# Altium integrated library ST Analog Comparator.IntLib: 82 symbols
Pins are listed as number, name and electrical type; pins without a type are passive.

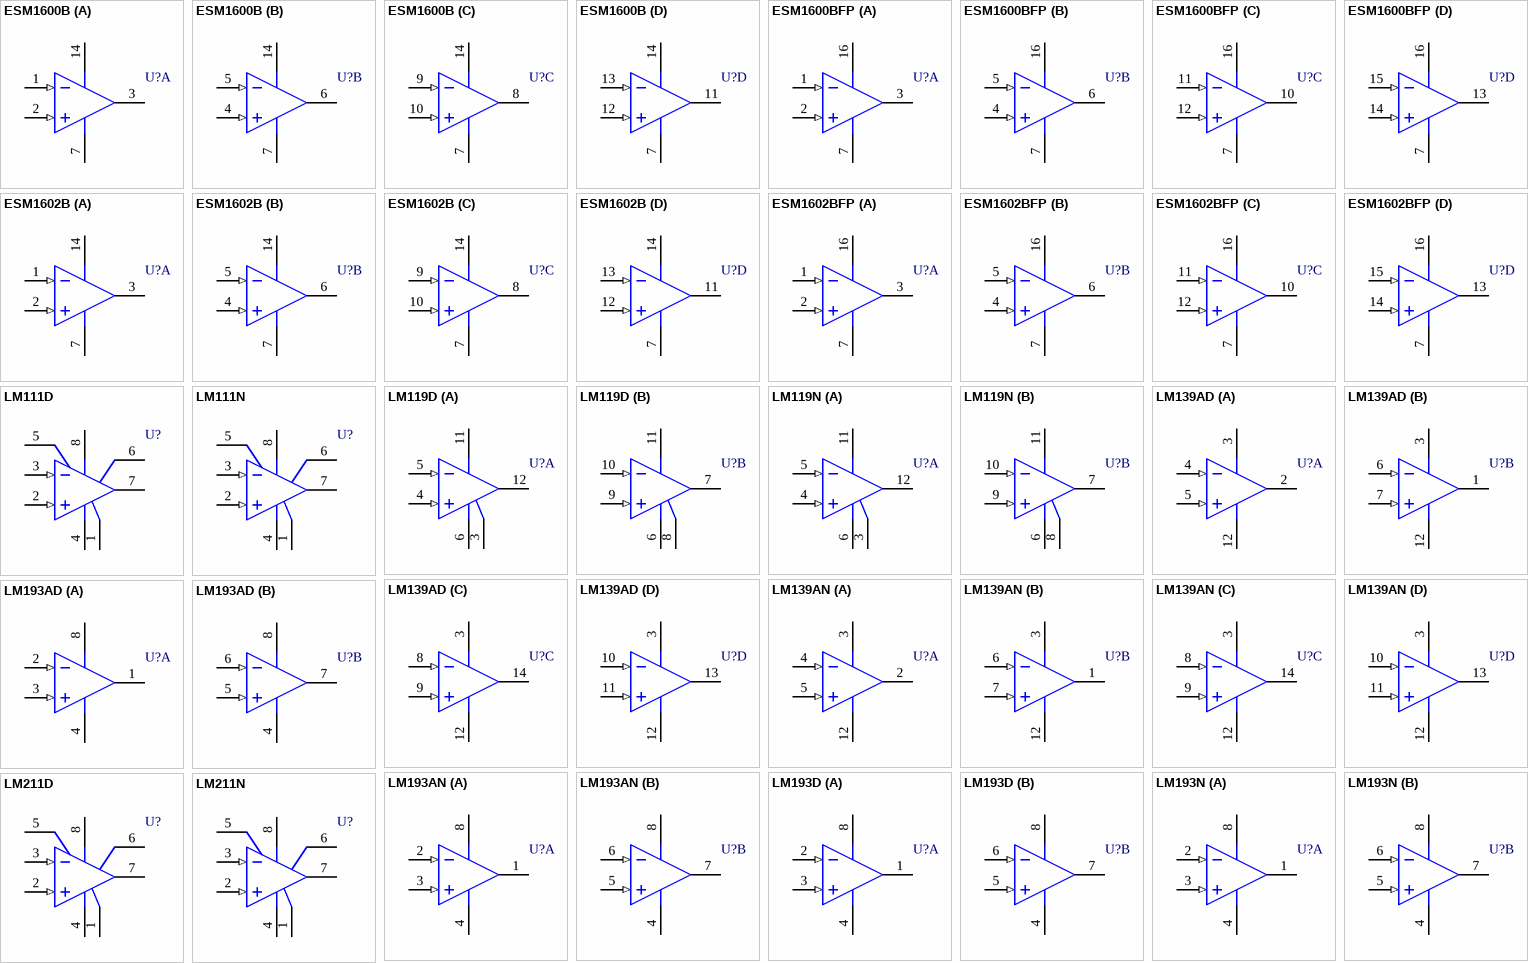
[diagram p0: symbols ESM1600B to LM211N]

## ESM1600B
designator U?
Quad Comparator Interface Circuit; Published: 24-Aug-2001; LatestRevisionDate: 17-Jul-2002; LatestRevisionNote: Re-released for DXP Platform.; DatasheetDocument: Jan-1997; PackageDocument: Jan-1997; PackageReference: DIP14; Publisher: Altium Limited
footprint DIP14 (DIP; 14 Leads; Row Spacing 7.62 mm; Pitch 2.54 mm)
pins on every part: 7 GND (power), 14 VCC (power)
part A pins: 1 IN- (in), 2 IN+ (in), 3 OUT (oc)
part B pins: 4 IN+ (in), 5 IN- (in), 6 OUT (oc)
part C pins: 8 OUT (oc), 9 IN- (in), 10 IN+ (in)
part D pins: 11 OUT (oc), 12 IN+ (in), 13 IN- (in)

## ESM1600BFP
designator U?
Quad Comparator Interface Circuit; Note: Pins 8 and 9 are not connected (NC) and not drawn.; Published: 24-Aug-2001; LatestRevisionDate: 17-Jul-2002; LatestRevisionNote: Re-released for DXP Platform.; DatasheetDocument: Jan-1997; PackageDocument: May-1998; PackageReference: SO16; Publisher: Altium Limited
footprint SO16 (Small Outline; 16 Leads; Body Width 3.9 mm; Pitch 1.27 mm)
pins on every part: 7 GND (power), 16 VCC (power)
part A pins: 1 IN- (in), 2 IN+ (in), 3 OUT (oc)
part B pins: 4 IN+ (in), 5 IN- (in), 6 OUT (oc)
part C pins: 10 OUT (oc), 11 IN- (in), 12 IN+ (in)
part D pins: 13 OUT (oc), 14 IN+ (in), 15 IN- (in)

## ESM1602B
designator U?
Quad Comparator Interface Circuit; Published: 24-Aug-2001; LatestRevisionDate: 17-Jul-2002; LatestRevisionNote: Re-released for DXP Platform.; DatasheetDocument: Jan-1996; PackageDocument: Jan-1997; PackageReference: DIP14; Publisher: Altium Limited
footprint DIP14 (DIP; 14 Leads; Row Spacing 7.62 mm; Pitch 2.54 mm)
pins on every part: 7 GND (power), 14 VCC (power)
part A pins: 1 IN- (in), 2 IN+ (in), 3 OUT (oc)
part B pins: 4 IN+ (in), 5 IN- (in), 6 OUT (oc)
part C pins: 8 OUT (oc), 9 IN- (in), 10 IN+ (in)
part D pins: 11 OUT (oc), 12 IN+ (in), 13 IN- (in)

## ESM1602BFP
designator U?
Quad Comparator Interface Circuit; Note: Pins 8 and 9 are not connected (NC) and not drawn.; Published: 24-Aug-2001; LatestRevisionDate: 17-Jul-2002; LatestRevisionNote: Re-released for DXP Platform.; DatasheetDocument: Jan-1996; PackageDocument: May-1998; PackageReference: SO16; Publisher: Altium Limited
footprint SO16 (Small Outline; 16 Leads; Body Width 3.9 mm; Pitch 1.27 mm)
pins on every part: 7 GND (power), 16 VCC (power)
part A pins: 1 IN- (in), 2 IN+ (in), 3 OUT (oc)
part B pins: 4 IN+ (in), 5 IN- (in), 6 OUT (oc)
part C pins: 10 OUT (oc), 11 IN- (in), 12 IN+ (in)
part D pins: 13 OUT (oc), 14 IN+ (in), 15 IN- (in)

## LM111D
designator U?
Voltage Comparator; Published: 24-Aug-2001; LatestRevisionDate: 17-Jul-2002; LatestRevisionNote: Re-released for DXP Platform.; DatasheetDocument: Oct-1997; PackageDocument: Jul-1998; PackageReference: SO8; Publisher: Altium Limited; Code_JEDEC: MS-012-AA; Code_IPC: SO8
footprint SO8 (Small Outline; 8 Leads; Body Width 3.9 mm; Pitch 1.27 mm)
pins: 1 GND (power), 2 IN+ (in), 3 IN- (in), 4 V- (CASE) (power), 5 BAL, 6 BAL/STB, 7 OUT (oc), 8 V+ (power)

## LM111N
designator U?
Voltage Comparator; Published: 24-Aug-2001; LatestRevisionDate: 17-Jul-2002; LatestRevisionNote: Re-released for DXP Platform.; DatasheetDocument: Oct-1997; PackageReference: DIP8; Publisher: Altium Limited; Code_JEDEC: MO-001-AN
footprint DIP8 (DIP; 8 Leads; Row Spacing 7.62 mm; Pitch 2.54 mm)
pins: 1 GND (power), 2 IN+ (in), 3 IN- (in), 4 V- (CASE) (power), 5 BAL, 6 BAL/STB, 7 OUT (oc), 8 V+ (power)

## LM119D
designator U?
High-Speed Dual Comparator; Note: Pins 1, 2, 13 and 14 are not connected (NC) and not drawn.; Published: 24-Aug-2001; LatestRevisionDate: 17-Jul-2002; LatestRevisionNote: Re-released for DXP Platform.; DatasheetDocument: Oct-1997; PackageDocument: Sep-1998; PackageReference: SO14; Publisher: Altium Limited
footprint SO14 (Small Outline; 14 Leads; Body Width 3.9 mm; Pitch 1.27 mm)
pins on every part: 6 V- (power), 11 V+ (power)
part A pins: 3 GND (power), 4 IN+ (in), 5 IN- (in), 12 OUT (oc)
part B pins: 7 OUT (oc), 8 GND (power), 9 IN+ (in), 10 IN- (in)

## LM119N
designator U?
High-Speed Dual Comparator; Note: Pins 1, 2, 13 and 14 are not connected (NC) and not drawn.; Published: 24-Aug-2001; LatestRevisionDate: 17-Jul-2002; LatestRevisionNote: Re-released for DXP Platform.; DatasheetDocument: Oct-1997; PackageDocument: Jan-1997; PackageReference: DIP14; Publisher: Altium Limited
footprint DIP14 (DIP; 14 Leads; Row Spacing 7.62 mm; Pitch 2.54 mm)
pins on every part: 6 V- (power), 11 V+ (power)
part A pins: 3 GND (power), 4 IN+ (in), 5 IN- (in), 12 OUT (oc)
part B pins: 7 OUT (oc), 8 GND (power), 9 IN+ (in), 10 IN- (in)

## LM139AD
designator U?
Low-Power Quad Voltage Comparator; Published: 24-Aug-2001; LatestRevisionDate: 17-Jul-2002; LatestRevisionNote: Re-released for DXP Platform.; DatasheetDocument: Jun-1998; PackageDocument: Sep-1998; PackageReference: SO14; Publisher: Altium Limited
footprint SO14 (Small Outline; 14 Leads; Body Width 3.9 mm; Pitch 1.27 mm)
pins on every part: 3 V+ (power), 12 V- (power)
part A pins: 2 OUT (oc), 4 IN- (in), 5 IN+ (in)
part B pins: 1 OUT (oc), 6 IN- (in), 7 IN+ (in)
part C pins: 8 IN- (in), 9 IN+ (in), 14 OUT (oc)
part D pins: 10 IN- (in), 11 IN+ (in), 13 OUT (oc)

## LM139AN
designator U?
Low-Power Quad Voltage Comparator; Published: 24-Aug-2001; LatestRevisionDate: 17-Jul-2002; LatestRevisionNote: Re-released for DXP Platform.; DatasheetDocument: Jun-1998; PackageDocument: Jan-1997; PackageReference: DIP14; Publisher: Altium Limited
footprint DIP14 (DIP; 14 Leads; Row Spacing 7.62 mm; Pitch 2.54 mm)
pins on every part: 3 V+ (power), 12 V- (power)
part A pins: 2 OUT (oc), 4 IN- (in), 5 IN+ (in)
part B pins: 1 OUT (oc), 6 IN- (in), 7 IN+ (in)
part C pins: 8 IN- (in), 9 IN+ (in), 14 OUT (oc)
part D pins: 10 IN- (in), 11 IN+ (in), 13 OUT (oc)

## LM193AD
designator U?
Low-Power Dual Voltage Comparator; Published: 24-Aug-2001; LatestRevisionDate: 17-Jul-2002; LatestRevisionNote: Re-released for DXP Platform.; DatasheetDocument: Nov-1992; PackageDocument: Jul-1998; PackageReference: SO8; Publisher: Altium Limited; Code_JEDEC: MS-012-AA; Code_IPC: SO8
footprint SO8 (Small Outline; 8 Leads; Body Width 3.9 mm; Pitch 1.27 mm)
pins on every part: 4 V- (power), 8 V+ (power)
part A pins: 1 OUT (oc), 2 IN- (in), 3 IN+ (in)
part B pins: 5 IN+ (in), 6 IN- (in), 7 OUT (oc)

## LM193AN
designator U?
Low-Power Dual Voltage Comparator; Published: 24-Aug-2001; LatestRevisionDate: 17-Jul-2002; LatestRevisionNote: Re-released for DXP Platform.; DatasheetDocument: Nov-1992; PackageReference: DIP8; Publisher: Altium Limited; Code_JEDEC: MO-001-AN
footprint DIP8 (DIP; 8 Leads; Row Spacing 7.62 mm; Pitch 2.54 mm)
pins on every part: 4 V- (power), 8 V+ (power)
part A pins: 1 OUT (oc), 2 IN- (in), 3 IN+ (in)
part B pins: 5 IN+ (in), 6 IN- (in), 7 OUT (oc)

## LM193D
designator U?
Low-Power Dual Voltage Comparator; Published: 24-Aug-2001; LatestRevisionDate: 17-Jul-2002; LatestRevisionNote: Re-released for DXP Platform.; DatasheetDocument: Jun-1998; PackageDocument: Jul-1998; PackageReference: SO8; Publisher: Altium Limited; Code_JEDEC: MS-012-AA; Code_IPC: SO8
footprint SO8 (Small Outline; 8 Leads; Body Width 3.9 mm; Pitch 1.27 mm)
pins on every part: 4 V- (power), 8 V+ (power)
part A pins: 1 OUT (oc), 2 IN- (in), 3 IN+ (in)
part B pins: 5 IN+ (in), 6 IN- (in), 7 OUT (oc)

## LM193N
designator U?
Low-Power Dual Voltage Comparator; Published: 24-Aug-2001; LatestRevisionDate: 17-Jul-2002; LatestRevisionNote: Re-released for DXP Platform.; DatasheetDocument: Jun-1998; PackageReference: DIP8; Publisher: Altium Limited; Code_JEDEC: MO-001-AN
footprint DIP8 (DIP; 8 Leads; Row Spacing 7.62 mm; Pitch 2.54 mm)
pins on every part: 4 V- (power), 8 V+ (power)
part A pins: 1 OUT (oc), 2 IN- (in), 3 IN+ (in)
part B pins: 5 IN+ (in), 6 IN- (in), 7 OUT (oc)

## LM211D
designator U?
Voltage Comparator; Published: 24-Aug-2001; LatestRevisionDate: 17-Jul-2002; LatestRevisionNote: Re-released for DXP Platform.; DatasheetDocument: Oct-1997; PackageDocument: Jul-1998; PackageReference: SO8; Publisher: Altium Limited; Code_JEDEC: MS-012-AA; Code_IPC: SO8
footprint SO8 (Small Outline; 8 Leads; Body Width 3.9 mm; Pitch 1.27 mm)
pins: 1 GND (power), 2 IN+ (in), 3 IN- (in), 4 V- (CASE) (power), 5 BAL, 6 BAL/STB, 7 OUT (oc), 8 V+ (power)

## LM211N
designator U?
Voltage Comparator; Published: 24-Aug-2001; LatestRevisionDate: 17-Jul-2002; LatestRevisionNote: Re-released for DXP Platform.; DatasheetDocument: Oct-1997; PackageReference: DIP8; Publisher: Altium Limited; Code_JEDEC: MO-001-AN
footprint DIP8 (DIP; 8 Leads; Row Spacing 7.62 mm; Pitch 2.54 mm)
pins: 1 GND (power), 2 IN+ (in), 3 IN- (in), 4 V- (CASE) (power), 5 BAL, 6 BAL/STB, 7 OUT (oc), 8 V+ (power)

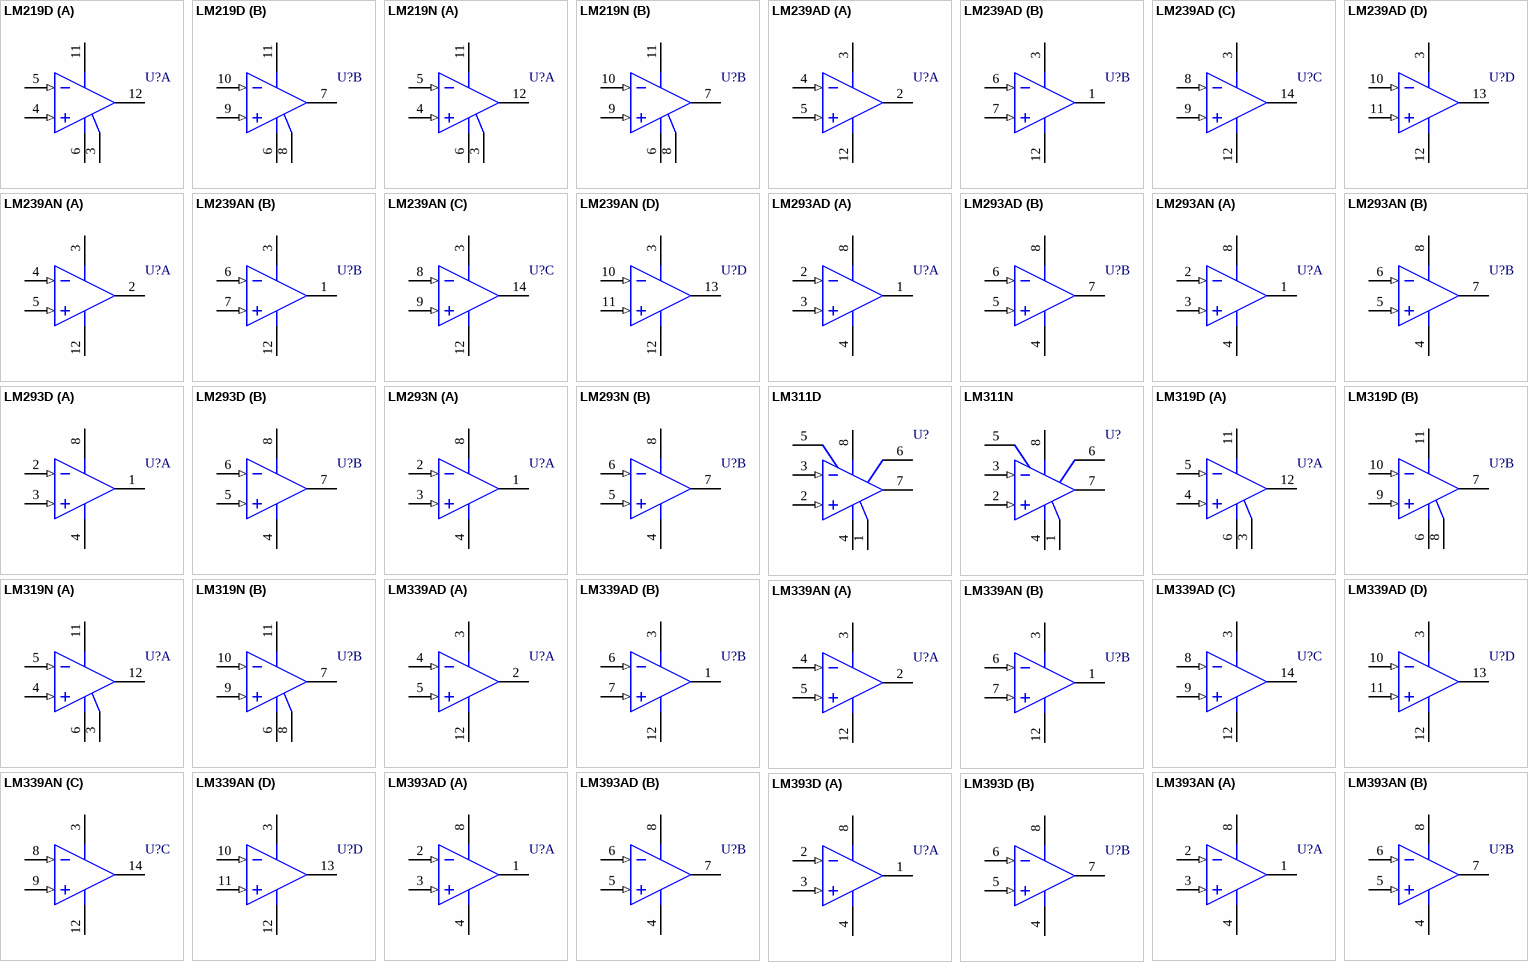
[diagram p1: symbols LM219D to LM393D]

## LM219D
designator U?
High-Speed Dual Comparator; Note: Pins 1, 2, 13 and 14 are not connected (NC) and not drawn.; Published: 24-Aug-2001; LatestRevisionDate: 17-Jul-2002; LatestRevisionNote: Re-released for DXP Platform.; DatasheetDocument: Oct-1997; PackageDocument: Sep-1998; PackageReference: SO14; Publisher: Altium Limited
footprint SO14 (Small Outline; 14 Leads; Body Width 3.9 mm; Pitch 1.27 mm)
pins on every part: 6 V- (power), 11 V+ (power)
part A pins: 3 GND (power), 4 IN+ (in), 5 IN- (in), 12 OUT (oc)
part B pins: 7 OUT (oc), 8 GND (power), 9 IN+ (in), 10 IN- (in)

## LM219N
designator U?
High-Speed Dual Comparator; Note: Pins 1, 2, 13 and 14 are not connected (NC) and not drawn.; Published: 24-Aug-2001; LatestRevisionDate: 17-Jul-2002; LatestRevisionNote: Re-released for DXP Platform.; DatasheetDocument: Oct-1997; PackageDocument: Jan-1997; PackageReference: DIP14; Publisher: Altium Limited
footprint DIP14 (DIP; 14 Leads; Row Spacing 7.62 mm; Pitch 2.54 mm)
pins on every part: 6 V- (power), 11 V+ (power)
part A pins: 3 GND (power), 4 IN+ (in), 5 IN- (in), 12 OUT (oc)
part B pins: 7 OUT (oc), 8 GND (power), 9 IN+ (in), 10 IN- (in)

## LM239AD
designator U?
Low-Power Quad Voltage Comparator; Published: 24-Aug-2001; LatestRevisionDate: 17-Jul-2002; LatestRevisionNote: Re-released for DXP Platform.; DatasheetDocument: Jun-1998; PackageDocument: Sep-1998; PackageReference: SO14; Publisher: Altium Limited
footprint SO14 (Small Outline; 14 Leads; Body Width 3.9 mm; Pitch 1.27 mm)
pins on every part: 3 V+ (power), 12 V- (power)
part A pins: 2 OUT (oc), 4 IN- (in), 5 IN+ (in)
part B pins: 1 OUT (oc), 6 IN- (in), 7 IN+ (in)
part C pins: 8 IN- (in), 9 IN+ (in), 14 OUT (oc)
part D pins: 10 IN- (in), 11 IN+ (in), 13 OUT (oc)

## LM239AN
designator U?
Low-Power Quad Voltage Comparator; Published: 24-Aug-2001; LatestRevisionDate: 17-Jul-2002; LatestRevisionNote: Re-released for DXP Platform.; DatasheetDocument: Jun-1998; PackageDocument: Jan-1997; PackageReference: DIP14; Publisher: Altium Limited
footprint DIP14 (DIP; 14 Leads; Row Spacing 7.62 mm; Pitch 2.54 mm)
pins on every part: 3 V+ (power), 12 V- (power)
part A pins: 2 OUT (oc), 4 IN- (in), 5 IN+ (in)
part B pins: 1 OUT (oc), 6 IN- (in), 7 IN+ (in)
part C pins: 8 IN- (in), 9 IN+ (in), 14 OUT (oc)
part D pins: 10 IN- (in), 11 IN+ (in), 13 OUT (oc)

## LM293AD
designator U?
Low-Power Dual Voltage Comparator; Published: 24-Aug-2001; LatestRevisionDate: 17-Jul-2002; LatestRevisionNote: Re-released for DXP Platform.; DatasheetDocument: Nov-1992; PackageDocument: Jul-1998; PackageReference: SO8; Publisher: Altium Limited; Code_JEDEC: MS-012-AA; Code_IPC: SO8
footprint SO8 (Small Outline; 8 Leads; Body Width 3.9 mm; Pitch 1.27 mm)
pins on every part: 4 V- (power), 8 V+ (power)
part A pins: 1 OUT (oc), 2 IN- (in), 3 IN+ (in)
part B pins: 5 IN+ (in), 6 IN- (in), 7 OUT (oc)

## LM293AN
designator U?
Low-Power Dual Voltage Comparator; Published: 24-Aug-2001; LatestRevisionDate: 17-Jul-2002; LatestRevisionNote: Re-released for DXP Platform.; DatasheetDocument: Nov-1992; PackageReference: DIP8; Publisher: Altium Limited; Code_JEDEC: MO-001-AN
footprint DIP8 (DIP; 8 Leads; Row Spacing 7.62 mm; Pitch 2.54 mm)
pins on every part: 4 V- (power), 8 V+ (power)
part A pins: 1 OUT (oc), 2 IN- (in), 3 IN+ (in)
part B pins: 5 IN+ (in), 6 IN- (in), 7 OUT (oc)

## LM293D
designator U?
Low-Power Dual Voltage Comparator; Published: 24-Aug-2001; LatestRevisionDate: 17-Jul-2002; LatestRevisionNote: Re-released for DXP Platform.; DatasheetDocument: Jun-1998; PackageDocument: Jul-1998; PackageReference: SO8; Publisher: Altium Limited; Code_JEDEC: MS-012-AA; Code_IPC: SO8
footprint SO8 (Small Outline; 8 Leads; Body Width 3.9 mm; Pitch 1.27 mm)
pins on every part: 4 V- (power), 8 V+ (power)
part A pins: 1 OUT (oc), 2 IN- (in), 3 IN+ (in)
part B pins: 5 IN+ (in), 6 IN- (in), 7 OUT (oc)

## LM293N
designator U?
Low-Power Dual Voltage Comparator; Published: 24-Aug-2001; LatestRevisionDate: 17-Jul-2002; LatestRevisionNote: Re-released for DXP Platform.; DatasheetDocument: Jun-1998; PackageReference: DIP8; Publisher: Altium Limited; Code_JEDEC: MO-001-AN
footprint DIP8 (DIP; 8 Leads; Row Spacing 7.62 mm; Pitch 2.54 mm)
pins on every part: 4 V- (power), 8 V+ (power)
part A pins: 1 OUT (oc), 2 IN- (in), 3 IN+ (in)
part B pins: 5 IN+ (in), 6 IN- (in), 7 OUT (oc)

## LM311D
designator U?
Voltage Comparator; Published: 24-Aug-2001; LatestRevisionDate: 17-Jul-2002; LatestRevisionNote: Re-released for DXP Platform.; DatasheetDocument: Oct-1997; PackageDocument: Jul-1998; PackageReference: SO8; Publisher: Altium Limited; Code_JEDEC: MS-012-AA; Code_IPC: SO8
footprint SO8 (Small Outline; 8 Leads; Body Width 3.9 mm; Pitch 1.27 mm)
pins: 1 GND (power), 2 IN+ (in), 3 IN- (in), 4 V- (CASE) (power), 5 BAL, 6 BAL/STB, 7 OUT (oc), 8 V+ (power)

## LM311N
designator U?
Voltage Comparator; Published: 24-Aug-2001; LatestRevisionDate: 17-Jul-2002; LatestRevisionNote: Re-released for DXP Platform.; DatasheetDocument: Oct-1997; PackageReference: DIP8; Publisher: Altium Limited; Code_JEDEC: MO-001-AN
footprint DIP8 (DIP; 8 Leads; Row Spacing 7.62 mm; Pitch 2.54 mm)
pins: 1 GND (power), 2 IN+ (in), 3 IN- (in), 4 V- (CASE) (power), 5 BAL, 6 BAL/STB, 7 OUT (oc), 8 V+ (power)

## LM319D
designator U?
High-Speed Dual Comparator; Note: Pins 1, 2, 13 and 14 are not connected (NC) and not drawn.; Published: 24-Aug-2001; LatestRevisionDate: 17-Jul-2002; LatestRevisionNote: Re-released for DXP Platform.; DatasheetDocument: Oct-1997; PackageDocument: Sep-1998; PackageReference: SO14; Publisher: Altium Limited
footprint SO14 (Small Outline; 14 Leads; Body Width 3.9 mm; Pitch 1.27 mm)
pins on every part: 6 V- (power), 11 V+ (power)
part A pins: 3 GND (power), 4 IN+ (in), 5 IN- (in), 12 OUT (oc)
part B pins: 7 OUT (oc), 8 GND (power), 9 IN+ (in), 10 IN- (in)

## LM319N
designator U?
High-Speed Dual Comparator; Note: Pins 1, 2, 13 and 14 are not connected (NC) and not drawn.; Published: 24-Aug-2001; LatestRevisionDate: 17-Jul-2002; LatestRevisionNote: Re-released for DXP Platform.; DatasheetDocument: Oct-1997; PackageDocument: Jan-1997; PackageReference: DIP14; Publisher: Altium Limited
footprint DIP14 (DIP; 14 Leads; Row Spacing 7.62 mm; Pitch 2.54 mm)
pins on every part: 6 V- (power), 11 V+ (power)
part A pins: 3 GND (power), 4 IN+ (in), 5 IN- (in), 12 OUT (oc)
part B pins: 7 OUT (oc), 8 GND (power), 9 IN+ (in), 10 IN- (in)

## LM339AD
designator U?
Low-Power Quad Voltage Comparator; Published: 24-Aug-2001; LatestRevisionDate: 17-Jul-2002; LatestRevisionNote: Re-released for DXP Platform.; DatasheetDocument: Jun-1998; PackageDocument: Sep-1998; PackageReference: SO14; Publisher: Altium Limited
footprint SO14 (Small Outline; 14 Leads; Body Width 3.9 mm; Pitch 1.27 mm)
pins on every part: 3 V+ (power), 12 V- (power)
part A pins: 2 OUT (oc), 4 IN- (in), 5 IN+ (in)
part B pins: 1 OUT (oc), 6 IN- (in), 7 IN+ (in)
part C pins: 8 IN- (in), 9 IN+ (in), 14 OUT (oc)
part D pins: 10 IN- (in), 11 IN+ (in), 13 OUT (oc)

## LM339AN
designator U?
Low-Power Quad Voltage Comparator; Published: 24-Aug-2001; LatestRevisionDate: 17-Jul-2002; LatestRevisionNote: Re-released for DXP Platform.; DatasheetDocument: Jun-1998; PackageDocument: Jan-1997; PackageReference: DIP14; Publisher: Altium Limited
footprint DIP14 (DIP; 14 Leads; Row Spacing 7.62 mm; Pitch 2.54 mm)
pins on every part: 3 V+ (power), 12 V- (power)
part A pins: 2 OUT (oc), 4 IN- (in), 5 IN+ (in)
part B pins: 1 OUT (oc), 6 IN- (in), 7 IN+ (in)
part C pins: 8 IN- (in), 9 IN+ (in), 14 OUT (oc)
part D pins: 10 IN- (in), 11 IN+ (in), 13 OUT (oc)

## LM393AD
designator U?
Low-Power Dual Voltage Comparator; Published: 24-Aug-2001; LatestRevisionDate: 17-Jul-2002; LatestRevisionNote: Re-released for DXP Platform.; DatasheetDocument: Nov-1992; PackageDocument: Jul-1998; PackageReference: SO8; Publisher: Altium Limited; Code_JEDEC: MS-012-AA; Code_IPC: SO8
footprint SO8 (Small Outline; 8 Leads; Body Width 3.9 mm; Pitch 1.27 mm)
pins on every part: 4 V- (power), 8 V+ (power)
part A pins: 1 OUT (oc), 2 IN- (in), 3 IN+ (in)
part B pins: 5 IN+ (in), 6 IN- (in), 7 OUT (oc)

## LM393AN
designator U?
Low-Power Dual Voltage Comparator; Published: 24-Aug-2001; LatestRevisionDate: 17-Jul-2002; LatestRevisionNote: Re-released for DXP Platform.; DatasheetDocument: Nov-1992; PackageReference: DIP8; Publisher: Altium Limited; Code_JEDEC: MO-001-AN
footprint DIP8 (DIP; 8 Leads; Row Spacing 7.62 mm; Pitch 2.54 mm)
pins on every part: 4 V- (power), 8 V+ (power)
part A pins: 1 OUT (oc), 2 IN- (in), 3 IN+ (in)
part B pins: 5 IN+ (in), 6 IN- (in), 7 OUT (oc)

## LM393D
designator U?
Low-Power Dual Voltage Comparator; Published: 24-Aug-2001; LatestRevisionDate: 17-Jul-2002; LatestRevisionNote: Re-released for DXP Platform.; DatasheetDocument: Jun-1998; PackageDocument: Jul-1998; PackageReference: SO8; Publisher: Altium Limited; Code_JEDEC: MS-012-AA; Code_IPC: SO8
footprint SO8 (Small Outline; 8 Leads; Body Width 3.9 mm; Pitch 1.27 mm)
pins on every part: 4 V- (power), 8 V+ (power)
part A pins: 1 OUT (oc), 2 IN- (in), 3 IN+ (in)
part B pins: 5 IN+ (in), 6 IN- (in), 7 OUT (oc)

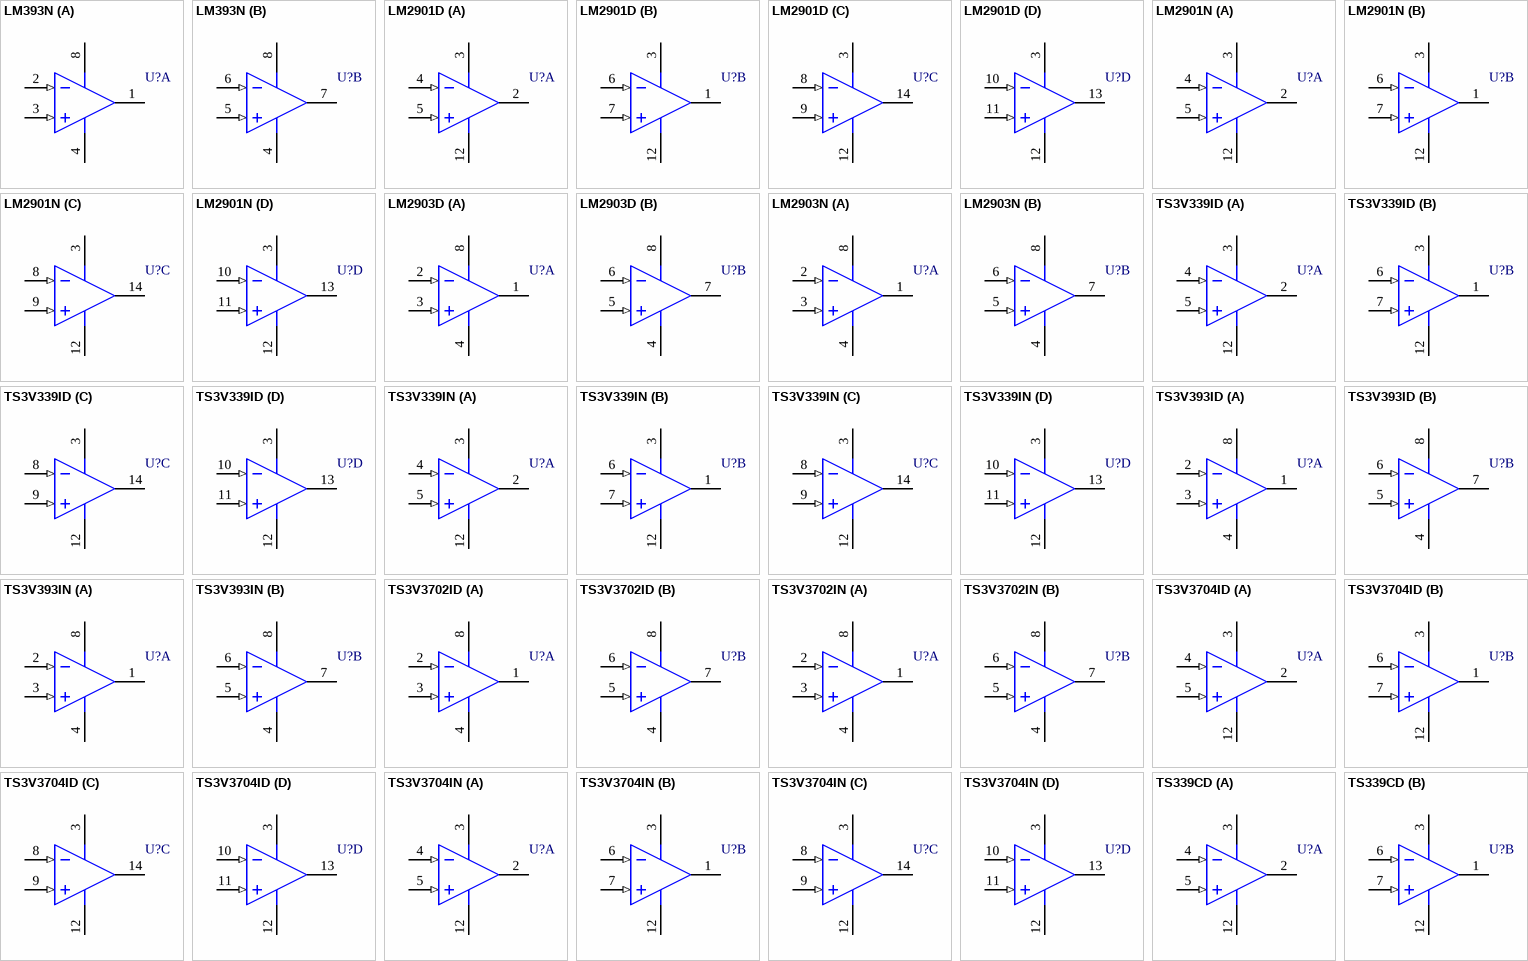
[diagram p2: symbols LM393N to TS339CD]

## LM393N
designator U?
Low-Power Dual Voltage Comparator; Published: 24-Aug-2001; LatestRevisionDate: 17-Jul-2002; LatestRevisionNote: Re-released for DXP Platform.; DatasheetDocument: Jun-1998; PackageReference: DIP8; Publisher: Altium Limited; Code_JEDEC: MO-001-AN
footprint DIP8 (DIP; 8 Leads; Row Spacing 7.62 mm; Pitch 2.54 mm)
pins on every part: 4 V- (power), 8 V+ (power)
part A pins: 1 OUT (oc), 2 IN- (in), 3 IN+ (in)
part B pins: 5 IN+ (in), 6 IN- (in), 7 OUT (oc)

## LM2901D
designator U?
Low-Power Quad Voltage Comparator; Published: 24-Aug-2001; LatestRevisionDate: 17-Jul-2002; LatestRevisionNote: Re-released for DXP Platform.; DatasheetDocument: Aug-1998; PackageDocument: Sep-1998; PackageReference: SO14; Publisher: Altium Limited
footprint SO14 (Small Outline; 14 Leads; Body Width 3.9 mm; Pitch 1.27 mm)
pins on every part: 3 V+ (power), 12 V- (power)
part A pins: 2 OUT (oc), 4 IN- (in), 5 IN+ (in)
part B pins: 1 OUT (oc), 6 IN- (in), 7 IN+ (in)
part C pins: 8 IN- (in), 9 IN+ (in), 14 OUT (oc)
part D pins: 10 IN- (in), 11 IN+ (in), 13 OUT (oc)

## LM2901N
designator U?
Low-Power Quad Voltage Comparator; Published: 24-Aug-2001; LatestRevisionDate: 17-Jul-2002; LatestRevisionNote: Re-released for DXP Platform.; DatasheetDocument: Aug-1998; PackageDocument: Jan-1997; PackageReference: DIP14; Publisher: Altium Limited
footprint DIP14 (DIP; 14 Leads; Row Spacing 7.62 mm; Pitch 2.54 mm)
pins on every part: 3 V+ (power), 12 V- (power)
part A pins: 2 OUT (oc), 4 IN- (in), 5 IN+ (in)
part B pins: 1 OUT (oc), 6 IN- (in), 7 IN+ (in)
part C pins: 8 IN- (in), 9 IN+ (in), 14 OUT (oc)
part D pins: 10 IN- (in), 11 IN+ (in), 13 OUT (oc)

## LM2903D
designator U?
Low-Power Dual Voltage Comparator; Published: 24-Aug-2001; LatestRevisionDate: 17-Jul-2002; LatestRevisionNote: Re-released for DXP Platform.; DatasheetDocument: Oct-1999; PackageDocument: Jul-1998; PackageReference: SO8; Publisher: Altium Limited; Code_JEDEC: MS-012-AA; Code_IPC: SO8
footprint SO8 (Small Outline; 8 Leads; Body Width 3.9 mm; Pitch 1.27 mm)
pins on every part: 4 V- (power), 8 V+ (power)
part A pins: 1 OUT (oc), 2 IN- (in), 3 IN+ (in)
part B pins: 5 IN+ (in), 6 IN- (in), 7 OUT (oc)

## LM2903N
designator U?
Low-Power Dual Voltage Comparator; Published: 24-Aug-2001; LatestRevisionDate: 17-Jul-2002; LatestRevisionNote: Re-released for DXP Platform.; DatasheetDocument: Oct-1999; PackageReference: DIP8; Publisher: Altium Limited; Code_JEDEC: MO-001-AN
footprint DIP8 (DIP; 8 Leads; Row Spacing 7.62 mm; Pitch 2.54 mm)
pins on every part: 4 V- (power), 8 V+ (power)
part A pins: 1 OUT (oc), 2 IN- (in), 3 IN+ (in)
part B pins: 5 IN+ (in), 6 IN- (in), 7 OUT (oc)

## TS3V339ID
designator U?
3V Micropower Quad Voltage Comparator; Published: 24-Aug-2001; LatestRevisionDate: 17-Jul-2002; LatestRevisionNote: Re-released for DXP Platform.; DatasheetDocument: Oct-1997; PackageDocument: Sep-1998; PackageReference: SO14; Publisher: Altium Limited
footprint SO14 (Small Outline; 14 Leads; Body Width 3.9 mm; Pitch 1.27 mm)
pins on every part: 3 V+ (power), 12 V- (power)
part A pins: 2 OUT (oc), 4 IN- (in), 5 IN+ (in)
part B pins: 1 OUT (oc), 6 IN- (in), 7 IN+ (in)
part C pins: 8 IN- (in), 9 IN+ (in), 14 OUT (oc)
part D pins: 10 IN- (in), 11 IN+ (in), 13 OUT (oc)

## TS3V339IN
designator U?
3V Micropower Quad Voltage Comparator; Published: 24-Aug-2001; LatestRevisionDate: 17-Jul-2002; LatestRevisionNote: Re-released for DXP Platform.; DatasheetDocument: Oct-1997; PackageDocument: Jan-1997; PackageReference: DIP14; Publisher: Altium Limited
footprint DIP14 (DIP; 14 Leads; Row Spacing 7.62 mm; Pitch 2.54 mm)
pins on every part: 3 V+ (power), 12 V- (power)
part A pins: 2 OUT (oc), 4 IN- (in), 5 IN+ (in)
part B pins: 1 OUT (oc), 6 IN- (in), 7 IN+ (in)
part C pins: 8 IN- (in), 9 IN+ (in), 14 OUT (oc)
part D pins: 10 IN- (in), 11 IN+ (in), 13 OUT (oc)

## TS3V393ID
designator U?
3V Micropower Dual Voltage Comparator; Published: 24-Aug-2001; LatestRevisionDate: 17-Jul-2002; LatestRevisionNote: Re-released for DXP Platform.; DatasheetDocument: Oct-1997; PackageDocument: Jul-1998; PackageReference: SO8; Publisher: Altium Limited; Code_JEDEC: MS-012-AA; Code_IPC: SO8
footprint SO8 (Small Outline; 8 Leads; Body Width 3.9 mm; Pitch 1.27 mm)
pins on every part: 4 V- (power), 8 V+ (power)
part A pins: 1 OUT (oc), 2 IN- (in), 3 IN+ (in)
part B pins: 5 IN+ (in), 6 IN- (in), 7 OUT (oc)

## TS3V393IN
designator U?
3V Micropower Dual Voltage Comparator; Published: 24-Aug-2001; LatestRevisionDate: 17-Jul-2002; LatestRevisionNote: Re-released for DXP Platform.; DatasheetDocument: Oct-1997; PackageReference: DIP8; Publisher: Altium Limited; Code_JEDEC: MO-001-AN
footprint DIP8 (DIP; 8 Leads; Row Spacing 7.62 mm; Pitch 2.54 mm)
pins on every part: 4 V- (power), 8 V+ (power)
part A pins: 1 OUT (oc), 2 IN- (in), 3 IN+ (in)
part B pins: 5 IN+ (in), 6 IN- (in), 7 OUT (oc)

## TS3V3702ID
designator U?
3V Micropower Dual Voltage Comparator; Published: 24-Aug-2001; LatestRevisionDate: 17-Jul-2002; LatestRevisionNote: Re-released for DXP Platform.; DatasheetDocument: Oct-1997; PackageDocument: Jul-1998; PackageReference: SO8; Publisher: Altium Limited; Code_JEDEC: MS-012-AA; Code_IPC: SO8
footprint SO8 (Small Outline; 8 Leads; Body Width 3.9 mm; Pitch 1.27 mm)
pins on every part: 4 V- (power), 8 V+ (power)
part A pins: 1 OUT (oc), 2 IN- (in), 3 IN+ (in)
part B pins: 5 IN+ (in), 6 IN- (in), 7 OUT (oc)

## TS3V3702IN
designator U?
3V Micropower Dual Voltage Comparator; Published: 24-Aug-2001; LatestRevisionDate: 17-Jul-2002; LatestRevisionNote: Re-released for DXP Platform.; DatasheetDocument: Oct-1997; PackageReference: DIP8; Publisher: Altium Limited; Code_JEDEC: MO-001-AN
footprint DIP8 (DIP; 8 Leads; Row Spacing 7.62 mm; Pitch 2.54 mm)
pins on every part: 4 V- (power), 8 V+ (power)
part A pins: 1 OUT (oc), 2 IN- (in), 3 IN+ (in)
part B pins: 5 IN+ (in), 6 IN- (in), 7 OUT (oc)

## TS3V3704ID
designator U?
3V Micropower Quad Voltage Comparator; Published: 24-Aug-2001; LatestRevisionDate: 17-Jul-2002; LatestRevisionNote: Re-released for DXP Platform.; DatasheetDocument: Oct-1997; PackageDocument: Sep-1998; PackageReference: SO14; Publisher: Altium Limited
footprint SO14 (Small Outline; 14 Leads; Body Width 3.9 mm; Pitch 1.27 mm)
pins on every part: 3 V+ (power), 12 V- (power)
part A pins: 2 OUT (oc), 4 IN- (in), 5 IN+ (in)
part B pins: 1 OUT (oc), 6 IN- (in), 7 IN+ (in)
part C pins: 8 IN- (in), 9 IN+ (in), 14 OUT (oc)
part D pins: 10 IN- (in), 11 IN+ (in), 13 OUT (oc)

## TS3V3704IN
designator U?
3V Micropower Quad Voltage Comparator; Published: 24-Aug-2001; LatestRevisionDate: 17-Jul-2002; LatestRevisionNote: Re-released for DXP Platform.; DatasheetDocument: Oct-1997; PackageDocument: Jan-1997; PackageReference: DIP14; Publisher: Altium Limited
footprint DIP14 (DIP; 14 Leads; Row Spacing 7.62 mm; Pitch 2.54 mm)
pins on every part: 3 V+ (power), 12 V- (power)
part A pins: 2 OUT (oc), 4 IN- (in), 5 IN+ (in)
part B pins: 1 OUT (oc), 6 IN- (in), 7 IN+ (in)
part C pins: 8 IN- (in), 9 IN+ (in), 14 OUT (oc)
part D pins: 10 IN- (in), 11 IN+ (in), 13 OUT (oc)

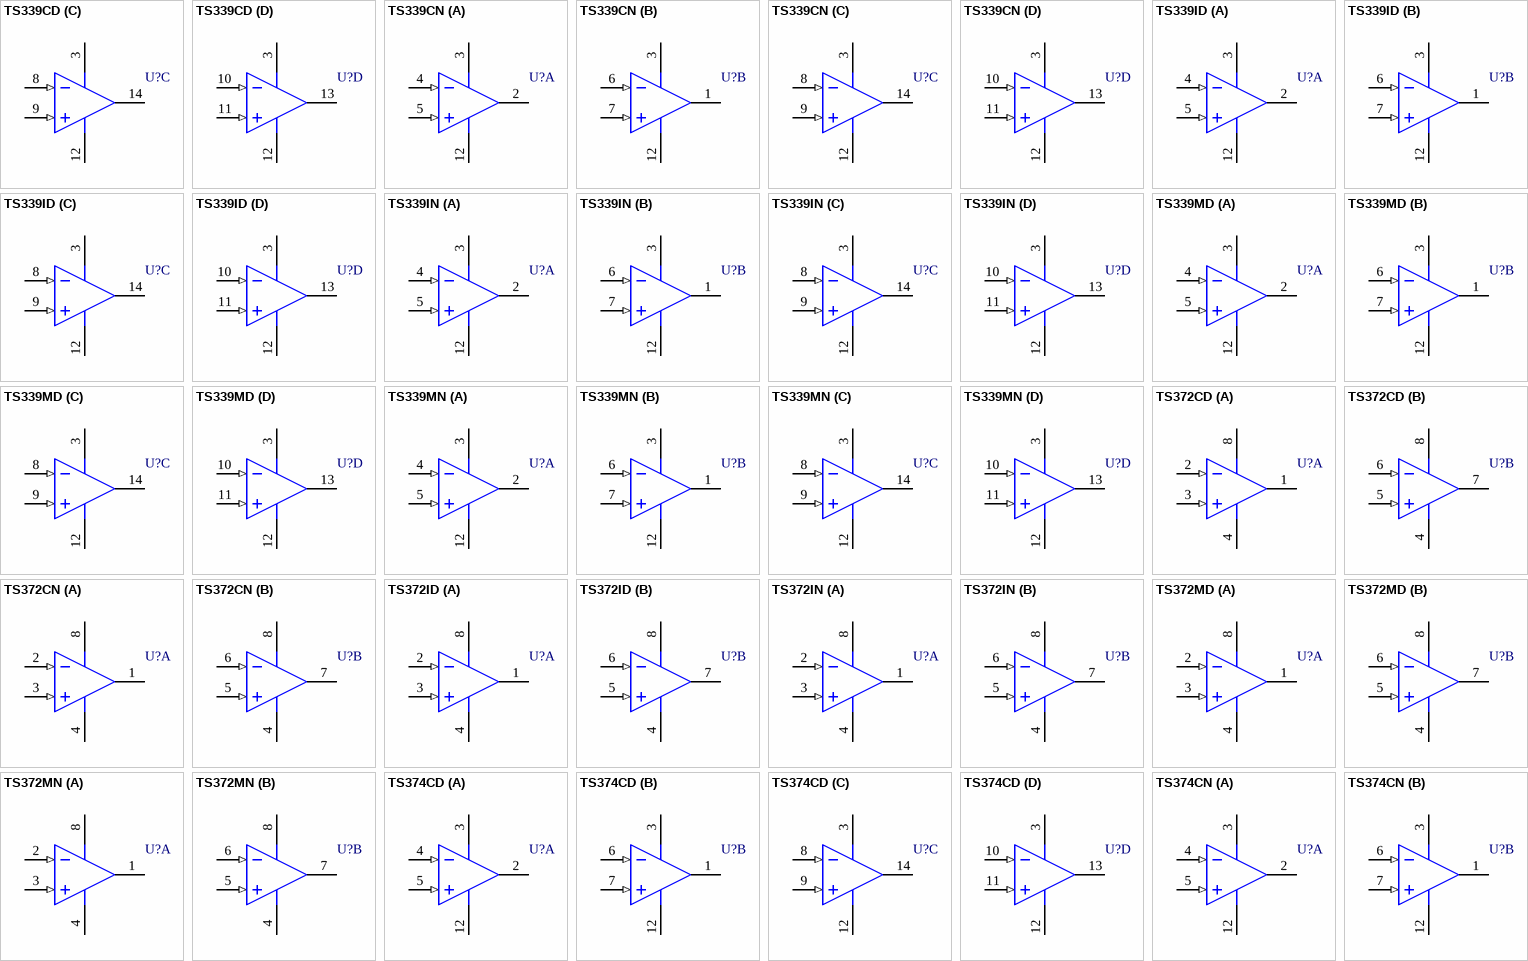
[diagram p3: symbols TS339CD to TS374CN]

## TS339CD
designator U?
Micropower Quad CMOS Voltage Comparator; Published: 24-Aug-2001; LatestRevisionDate: 17-Jul-2002; LatestRevisionNote: Re-released for DXP Platform.; DatasheetDocument: Sep-1998; PackageDocument: Sep-1998; PackageReference: SO14; Publisher: Altium Limited
footprint SO14 (Small Outline; 14 Leads; Body Width 3.9 mm; Pitch 1.27 mm)
pins on every part: 3 V+ (power), 12 V- (power)
part A pins: 2 OUT (oc), 4 IN- (in), 5 IN+ (in)
part B pins: 1 OUT (oc), 6 IN- (in), 7 IN+ (in)
part C pins: 8 IN- (in), 9 IN+ (in), 14 OUT (oc)
part D pins: 10 IN- (in), 11 IN+ (in), 13 OUT (oc)

## TS339CN
designator U?
Micropower Quad CMOS Voltage Comparator; Published: 24-Aug-2001; LatestRevisionDate: 17-Jul-2002; LatestRevisionNote: Re-released for DXP Platform.; DatasheetDocument: Sep-1998; PackageDocument: Jan-1997; PackageReference: DIP14; Publisher: Altium Limited
footprint DIP14 (DIP; 14 Leads; Row Spacing 7.62 mm; Pitch 2.54 mm)
pins on every part: 3 V+ (power), 12 V- (power)
part A pins: 2 OUT (oc), 4 IN- (in), 5 IN+ (in)
part B pins: 1 OUT (oc), 6 IN- (in), 7 IN+ (in)
part C pins: 8 IN- (in), 9 IN+ (in), 14 OUT (oc)
part D pins: 10 IN- (in), 11 IN+ (in), 13 OUT (oc)

## TS339ID
designator U?
Micropower Quad CMOS Voltage Comparator; Published: 24-Aug-2001; LatestRevisionDate: 17-Jul-2002; LatestRevisionNote: Re-released for DXP Platform.; DatasheetDocument: Sep-1998; PackageDocument: Sep-1998; PackageReference: SO14; Publisher: Altium Limited
footprint SO14 (Small Outline; 14 Leads; Body Width 3.9 mm; Pitch 1.27 mm)
pins on every part: 3 V+ (power), 12 V- (power)
part A pins: 2 OUT (oc), 4 IN- (in), 5 IN+ (in)
part B pins: 1 OUT (oc), 6 IN- (in), 7 IN+ (in)
part C pins: 8 IN- (in), 9 IN+ (in), 14 OUT (oc)
part D pins: 10 IN- (in), 11 IN+ (in), 13 OUT (oc)

## TS339IN
designator U?
Micropower Quad CMOS Voltage Comparator; Published: 24-Aug-2001; LatestRevisionDate: 17-Jul-2002; LatestRevisionNote: Re-released for DXP Platform.; DatasheetDocument: Sep-1998; PackageDocument: Jan-1997; PackageReference: DIP14; Publisher: Altium Limited
footprint DIP14 (DIP; 14 Leads; Row Spacing 7.62 mm; Pitch 2.54 mm)
pins on every part: 3 V+ (power), 12 V- (power)
part A pins: 2 OUT (oc), 4 IN- (in), 5 IN+ (in)
part B pins: 1 OUT (oc), 6 IN- (in), 7 IN+ (in)
part C pins: 8 IN- (in), 9 IN+ (in), 14 OUT (oc)
part D pins: 10 IN- (in), 11 IN+ (in), 13 OUT (oc)

## TS339MD
designator U?
Micropower Quad CMOS Voltage Comparator; Published: 24-Aug-2001; LatestRevisionDate: 17-Jul-2002; LatestRevisionNote: Re-released for DXP Platform.; DatasheetDocument: Sep-1998; PackageDocument: Sep-1998; PackageReference: SO14; Publisher: Altium Limited
footprint SO14 (Small Outline; 14 Leads; Body Width 3.9 mm; Pitch 1.27 mm)
pins on every part: 3 V+ (power), 12 V- (power)
part A pins: 2 OUT (oc), 4 IN- (in), 5 IN+ (in)
part B pins: 1 OUT (oc), 6 IN- (in), 7 IN+ (in)
part C pins: 8 IN- (in), 9 IN+ (in), 14 OUT (oc)
part D pins: 10 IN- (in), 11 IN+ (in), 13 OUT (oc)

## TS339MN
designator U?
Micropower Quad CMOS Voltage Comparator; Published: 24-Aug-2001; LatestRevisionDate: 17-Jul-2002; LatestRevisionNote: Re-released for DXP Platform.; DatasheetDocument: Sep-1998; PackageDocument: Jan-1997; PackageReference: DIP14; Publisher: Altium Limited
footprint DIP14 (DIP; 14 Leads; Row Spacing 7.62 mm; Pitch 2.54 mm)
pins on every part: 3 V+ (power), 12 V- (power)
part A pins: 2 OUT (oc), 4 IN- (in), 5 IN+ (in)
part B pins: 1 OUT (oc), 6 IN- (in), 7 IN+ (in)
part C pins: 8 IN- (in), 9 IN+ (in), 14 OUT (oc)
part D pins: 10 IN- (in), 11 IN+ (in), 13 OUT (oc)

## TS372CD
designator U?
Low-Power Dual CMOS Voltage Comparator; Published: 24-Aug-2001; LatestRevisionDate: 17-Jul-2002; LatestRevisionNote: Re-released for DXP Platform.; DatasheetDocument: Oct-1997; PackageDocument: Jul-1998; PackageReference: SO8; Publisher: Altium Limited; Code_JEDEC: MS-012-AA; Code_IPC: SO8
footprint SO8 (Small Outline; 8 Leads; Body Width 3.9 mm; Pitch 1.27 mm)
pins on every part: 4 V- (power), 8 V+ (power)
part A pins: 1 OUT (oc), 2 IN- (in), 3 IN+ (in)
part B pins: 5 IN+ (in), 6 IN- (in), 7 OUT (oc)

## TS372CN
designator U?
Low-Power Dual CMOS Voltage Comparator; Published: 24-Aug-2001; LatestRevisionDate: 17-Jul-2002; LatestRevisionNote: Re-released for DXP Platform.; DatasheetDocument: Oct-1997; PackageReference: DIP8; Publisher: Altium Limited; Code_JEDEC: MO-001-AN
footprint DIP8 (DIP; 8 Leads; Row Spacing 7.62 mm; Pitch 2.54 mm)
pins on every part: 4 V- (power), 8 V+ (power)
part A pins: 1 OUT (oc), 2 IN- (in), 3 IN+ (in)
part B pins: 5 IN+ (in), 6 IN- (in), 7 OUT (oc)

## TS372ID
designator U?
Low-Power Dual CMOS Voltage Comparator; Published: 24-Aug-2001; LatestRevisionDate: 17-Jul-2002; LatestRevisionNote: Re-released for DXP Platform.; DatasheetDocument: Oct-1997; PackageDocument: Jul-1998; PackageReference: SO8; Publisher: Altium Limited; Code_JEDEC: MS-012-AA; Code_IPC: SO8
footprint SO8 (Small Outline; 8 Leads; Body Width 3.9 mm; Pitch 1.27 mm)
pins on every part: 4 V- (power), 8 V+ (power)
part A pins: 1 OUT (oc), 2 IN- (in), 3 IN+ (in)
part B pins: 5 IN+ (in), 6 IN- (in), 7 OUT (oc)

## TS372IN
designator U?
Low-Power Dual CMOS Voltage Comparator; Published: 24-Aug-2001; LatestRevisionDate: 17-Jul-2002; LatestRevisionNote: Re-released for DXP Platform.; DatasheetDocument: Oct-1997; PackageReference: DIP8; Publisher: Altium Limited; Code_JEDEC: MO-001-AN
footprint DIP8 (DIP; 8 Leads; Row Spacing 7.62 mm; Pitch 2.54 mm)
pins on every part: 4 V- (power), 8 V+ (power)
part A pins: 1 OUT (oc), 2 IN- (in), 3 IN+ (in)
part B pins: 5 IN+ (in), 6 IN- (in), 7 OUT (oc)

## TS372MD
designator U?
Low-Power Dual CMOS Voltage Comparator; Published: 24-Aug-2001; LatestRevisionDate: 17-Jul-2002; LatestRevisionNote: Re-released for DXP Platform.; DatasheetDocument: Oct-1997; PackageDocument: Jul-1998; PackageReference: SO8; Publisher: Altium Limited; Code_JEDEC: MS-012-AA; Code_IPC: SO8
footprint SO8 (Small Outline; 8 Leads; Body Width 3.9 mm; Pitch 1.27 mm)
pins on every part: 4 V- (power), 8 V+ (power)
part A pins: 1 OUT (oc), 2 IN- (in), 3 IN+ (in)
part B pins: 5 IN+ (in), 6 IN- (in), 7 OUT (oc)

## TS372MN
designator U?
Low-Power Dual CMOS Voltage Comparator; Published: 24-Aug-2001; LatestRevisionDate: 17-Jul-2002; LatestRevisionNote: Re-released for DXP Platform.; DatasheetDocument: Oct-1997; PackageReference: DIP8; Publisher: Altium Limited; Code_JEDEC: MO-001-AN
footprint DIP8 (DIP; 8 Leads; Row Spacing 7.62 mm; Pitch 2.54 mm)
pins on every part: 4 V- (power), 8 V+ (power)
part A pins: 1 OUT (oc), 2 IN- (in), 3 IN+ (in)
part B pins: 5 IN+ (in), 6 IN- (in), 7 OUT (oc)

## TS374CD
designator U?
Low-Power Quad CMOS Voltage Comparator; Published: 24-Aug-2001; LatestRevisionDate: 17-Jul-2002; LatestRevisionNote: Re-released for DXP Platform.; DatasheetDocument: Oct-1997; PackageDocument: Sep-1998; PackageReference: SO14; Publisher: Altium Limited
footprint SO14 (Small Outline; 14 Leads; Body Width 3.9 mm; Pitch 1.27 mm)
pins on every part: 3 V+ (power), 12 V- (power)
part A pins: 2 OUT (oc), 4 IN- (in), 5 IN+ (in)
part B pins: 1 OUT (oc), 6 IN- (in), 7 IN+ (in)
part C pins: 8 IN- (in), 9 IN+ (in), 14 OUT (oc)
part D pins: 10 IN- (in), 11 IN+ (in), 13 OUT (oc)

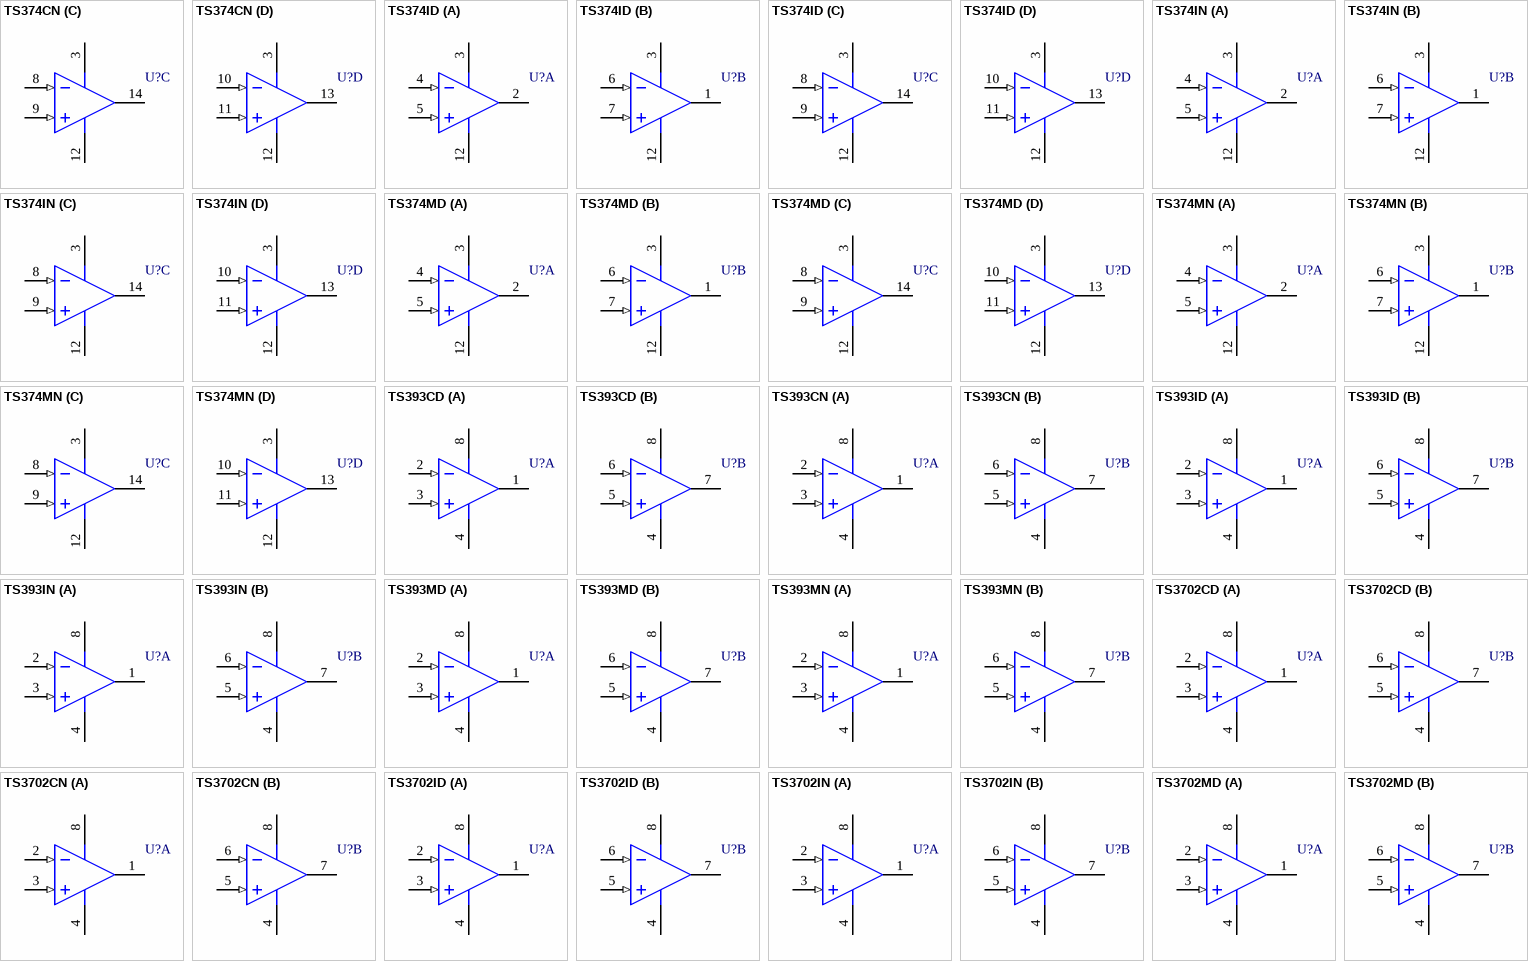
[diagram p4: symbols TS374CN to TS3702MD]

## TS374CN
designator U?
Low-Power Quad CMOS Voltage Comparator; Published: 24-Aug-2001; LatestRevisionDate: 17-Jul-2002; LatestRevisionNote: Re-released for DXP Platform.; DatasheetDocument: Oct-1997; PackageDocument: Jan-1997; PackageReference: DIP14; Publisher: Altium Limited
footprint DIP14 (DIP; 14 Leads; Row Spacing 7.62 mm; Pitch 2.54 mm)
pins on every part: 3 V+ (power), 12 V- (power)
part A pins: 2 OUT (oc), 4 IN- (in), 5 IN+ (in)
part B pins: 1 OUT (oc), 6 IN- (in), 7 IN+ (in)
part C pins: 8 IN- (in), 9 IN+ (in), 14 OUT (oc)
part D pins: 10 IN- (in), 11 IN+ (in), 13 OUT (oc)

## TS374ID
designator U?
Low-Power Quad CMOS Voltage Comparator; Published: 24-Aug-2001; LatestRevisionDate: 17-Jul-2002; LatestRevisionNote: Re-released for DXP Platform.; DatasheetDocument: Oct-1997; PackageDocument: Sep-1998; PackageReference: SO14; Publisher: Altium Limited
footprint SO14 (Small Outline; 14 Leads; Body Width 3.9 mm; Pitch 1.27 mm)
pins on every part: 3 V+ (power), 12 V- (power)
part A pins: 2 OUT (oc), 4 IN- (in), 5 IN+ (in)
part B pins: 1 OUT (oc), 6 IN- (in), 7 IN+ (in)
part C pins: 8 IN- (in), 9 IN+ (in), 14 OUT (oc)
part D pins: 10 IN- (in), 11 IN+ (in), 13 OUT (oc)

## TS374IN
designator U?
Low-Power Quad CMOS Voltage Comparator; Published: 24-Aug-2001; LatestRevisionDate: 17-Jul-2002; LatestRevisionNote: Re-released for DXP Platform.; DatasheetDocument: Oct-1997; PackageDocument: Jan-1997; PackageReference: DIP14; Publisher: Altium Limited
footprint DIP14 (DIP; 14 Leads; Row Spacing 7.62 mm; Pitch 2.54 mm)
pins on every part: 3 V+ (power), 12 V- (power)
part A pins: 2 OUT (oc), 4 IN- (in), 5 IN+ (in)
part B pins: 1 OUT (oc), 6 IN- (in), 7 IN+ (in)
part C pins: 8 IN- (in), 9 IN+ (in), 14 OUT (oc)
part D pins: 10 IN- (in), 11 IN+ (in), 13 OUT (oc)

## TS374MD
designator U?
Low-Power Quad CMOS Voltage Comparator; Published: 24-Aug-2001; LatestRevisionDate: 17-Jul-2002; LatestRevisionNote: Re-released for DXP Platform.; DatasheetDocument: Oct-1997; PackageDocument: Sep-1998; PackageReference: SO14; Publisher: Altium Limited
footprint SO14 (Small Outline; 14 Leads; Body Width 3.9 mm; Pitch 1.27 mm)
pins on every part: 3 V+ (power), 12 V- (power)
part A pins: 2 OUT (oc), 4 IN- (in), 5 IN+ (in)
part B pins: 1 OUT (oc), 6 IN- (in), 7 IN+ (in)
part C pins: 8 IN- (in), 9 IN+ (in), 14 OUT (oc)
part D pins: 10 IN- (in), 11 IN+ (in), 13 OUT (oc)

## TS374MN
designator U?
Low-Power Quad CMOS Voltage Comparator; Published: 24-Aug-2001; LatestRevisionDate: 17-Jul-2002; LatestRevisionNote: Re-released for DXP Platform.; DatasheetDocument: Oct-1997; PackageDocument: Jan-1997; PackageReference: DIP14; Publisher: Altium Limited
footprint DIP14 (DIP; 14 Leads; Row Spacing 7.62 mm; Pitch 2.54 mm)
pins on every part: 3 V+ (power), 12 V- (power)
part A pins: 2 OUT (oc), 4 IN- (in), 5 IN+ (in)
part B pins: 1 OUT (oc), 6 IN- (in), 7 IN+ (in)
part C pins: 8 IN- (in), 9 IN+ (in), 14 OUT (oc)
part D pins: 10 IN- (in), 11 IN+ (in), 13 OUT (oc)

## TS393CD
designator U?
Micropower Dual CMOS Voltage Comparator; Published: 24-Aug-2001; LatestRevisionDate: 17-Jul-2002; LatestRevisionNote: Re-released for DXP Platform.; DatasheetDocument: Apr-1999; PackageDocument: Jul-1998; PackageReference: SO8; Publisher: Altium Limited; Code_JEDEC: MS-012-AA; Code_IPC: SO8
footprint SO8 (Small Outline; 8 Leads; Body Width 3.9 mm; Pitch 1.27 mm)
pins on every part: 4 V- (power), 8 V+ (power)
part A pins: 1 OUT (oc), 2 IN- (in), 3 IN+ (in)
part B pins: 5 IN+ (in), 6 IN- (in), 7 OUT (oc)

## TS393CN
designator U?
Micropower Dual CMOS Voltage Comparator; Published: 24-Aug-2001; LatestRevisionDate: 17-Jul-2002; LatestRevisionNote: Re-released for DXP Platform.; DatasheetDocument: Apr-1999; PackageReference: DIP8; Publisher: Altium Limited; Code_JEDEC: MO-001-AN
footprint DIP8 (DIP; 8 Leads; Row Spacing 7.62 mm; Pitch 2.54 mm)
pins on every part: 4 V- (power), 8 V+ (power)
part A pins: 1 OUT (oc), 2 IN- (in), 3 IN+ (in)
part B pins: 5 IN+ (in), 6 IN- (in), 7 OUT (oc)

## TS393ID
designator U?
Micropower Dual CMOS Voltage Comparator; Published: 24-Aug-2001; LatestRevisionDate: 17-Jul-2002; LatestRevisionNote: Re-released for DXP Platform.; DatasheetDocument: Apr-1999; PackageDocument: Jul-1998; PackageReference: SO8; Publisher: Altium Limited; Code_JEDEC: MS-012-AA; Code_IPC: SO8
footprint SO8 (Small Outline; 8 Leads; Body Width 3.9 mm; Pitch 1.27 mm)
pins on every part: 4 V- (power), 8 V+ (power)
part A pins: 1 OUT (oc), 2 IN- (in), 3 IN+ (in)
part B pins: 5 IN+ (in), 6 IN- (in), 7 OUT (oc)

## TS393IN
designator U?
Micropower Dual CMOS Voltage Comparator; Published: 24-Aug-2001; LatestRevisionDate: 17-Jul-2002; LatestRevisionNote: Re-released for DXP Platform.; DatasheetDocument: Apr-1999; PackageReference: DIP8; Publisher: Altium Limited; Code_JEDEC: MO-001-AN
footprint DIP8 (DIP; 8 Leads; Row Spacing 7.62 mm; Pitch 2.54 mm)
pins on every part: 4 V- (power), 8 V+ (power)
part A pins: 1 OUT (oc), 2 IN- (in), 3 IN+ (in)
part B pins: 5 IN+ (in), 6 IN- (in), 7 OUT (oc)

## TS393MD
designator U?
Micropower Dual CMOS Voltage Comparator; Published: 24-Aug-2001; LatestRevisionDate: 17-Jul-2002; LatestRevisionNote: Re-released for DXP Platform.; DatasheetDocument: Apr-1999; PackageDocument: Jul-1998; PackageReference: SO8; Publisher: Altium Limited; Code_JEDEC: MS-012-AA; Code_IPC: SO8
footprint SO8 (Small Outline; 8 Leads; Body Width 3.9 mm; Pitch 1.27 mm)
pins on every part: 4 V- (power), 8 V+ (power)
part A pins: 1 OUT (oc), 2 IN- (in), 3 IN+ (in)
part B pins: 5 IN+ (in), 6 IN- (in), 7 OUT (oc)

## TS393MN
designator U?
Micropower Dual CMOS Voltage Comparator; Published: 24-Aug-2001; LatestRevisionDate: 17-Jul-2002; LatestRevisionNote: Re-released for DXP Platform.; DatasheetDocument: Apr-1999; PackageReference: DIP8; Publisher: Altium Limited; Code_JEDEC: MO-001-AN
footprint DIP8 (DIP; 8 Leads; Row Spacing 7.62 mm; Pitch 2.54 mm)
pins on every part: 4 V- (power), 8 V+ (power)
part A pins: 1 OUT (oc), 2 IN- (in), 3 IN+ (in)
part B pins: 5 IN+ (in), 6 IN- (in), 7 OUT (oc)

## TS3702CD
designator U?
Micropower Dual CMOS Voltage Comparator; Published: 24-Aug-2001; LatestRevisionDate: 17-Jul-2002; LatestRevisionNote: Re-released for DXP Platform.; DatasheetDocument: Oct-1997; PackageDocument: Jul-1998; PackageReference: SO8; Publisher: Altium Limited; Code_JEDEC: MS-012-AA; Code_IPC: SO8
footprint SO8 (Small Outline; 8 Leads; Body Width 3.9 mm; Pitch 1.27 mm)
pins on every part: 4 V- (power), 8 V+ (power)
part A pins: 1 OUT (oc), 2 IN- (in), 3 IN+ (in)
part B pins: 5 IN+ (in), 6 IN- (in), 7 OUT (oc)

## TS3702CN
designator U?
Micropower Dual CMOS Voltage Comparator; Published: 24-Aug-2001; LatestRevisionDate: 17-Jul-2002; LatestRevisionNote: Re-released for DXP Platform.; DatasheetDocument: Oct-1997; PackageReference: DIP8; Publisher: Altium Limited; Code_JEDEC: MO-001-AN
footprint DIP8 (DIP; 8 Leads; Row Spacing 7.62 mm; Pitch 2.54 mm)
pins on every part: 4 V- (power), 8 V+ (power)
part A pins: 1 OUT (oc), 2 IN- (in), 3 IN+ (in)
part B pins: 5 IN+ (in), 6 IN- (in), 7 OUT (oc)

## TS3702ID
designator U?
Micropower Dual CMOS Voltage Comparator; Published: 24-Aug-2001; LatestRevisionDate: 17-Jul-2002; LatestRevisionNote: Re-released for DXP Platform.; DatasheetDocument: Oct-1997; PackageDocument: Jul-1998; PackageReference: SO8; Publisher: Altium Limited; Code_JEDEC: MS-012-AA; Code_IPC: SO8
footprint SO8 (Small Outline; 8 Leads; Body Width 3.9 mm; Pitch 1.27 mm)
pins on every part: 4 V- (power), 8 V+ (power)
part A pins: 1 OUT (oc), 2 IN- (in), 3 IN+ (in)
part B pins: 5 IN+ (in), 6 IN- (in), 7 OUT (oc)

## TS3702IN
designator U?
Micropower Dual CMOS Voltage Comparator; Published: 24-Aug-2001; LatestRevisionDate: 17-Jul-2002; LatestRevisionNote: Re-released for DXP Platform.; DatasheetDocument: Oct-1997; PackageReference: DIP8; Publisher: Altium Limited; Code_JEDEC: MO-001-AN
footprint DIP8 (DIP; 8 Leads; Row Spacing 7.62 mm; Pitch 2.54 mm)
pins on every part: 4 V- (power), 8 V+ (power)
part A pins: 1 OUT (oc), 2 IN- (in), 3 IN+ (in)
part B pins: 5 IN+ (in), 6 IN- (in), 7 OUT (oc)

## TS3702MD
designator U?
Micropower Dual CMOS Voltage Comparator; Published: 24-Aug-2001; LatestRevisionDate: 17-Jul-2002; LatestRevisionNote: Re-released for DXP Platform.; DatasheetDocument: Oct-1997; PackageDocument: Jul-1998; PackageReference: SO8; Publisher: Altium Limited; Code_JEDEC: MS-012-AA; Code_IPC: SO8
footprint SO8 (Small Outline; 8 Leads; Body Width 3.9 mm; Pitch 1.27 mm)
pins on every part: 4 V- (power), 8 V+ (power)
part A pins: 1 OUT (oc), 2 IN- (in), 3 IN+ (in)
part B pins: 5 IN+ (in), 6 IN- (in), 7 OUT (oc)

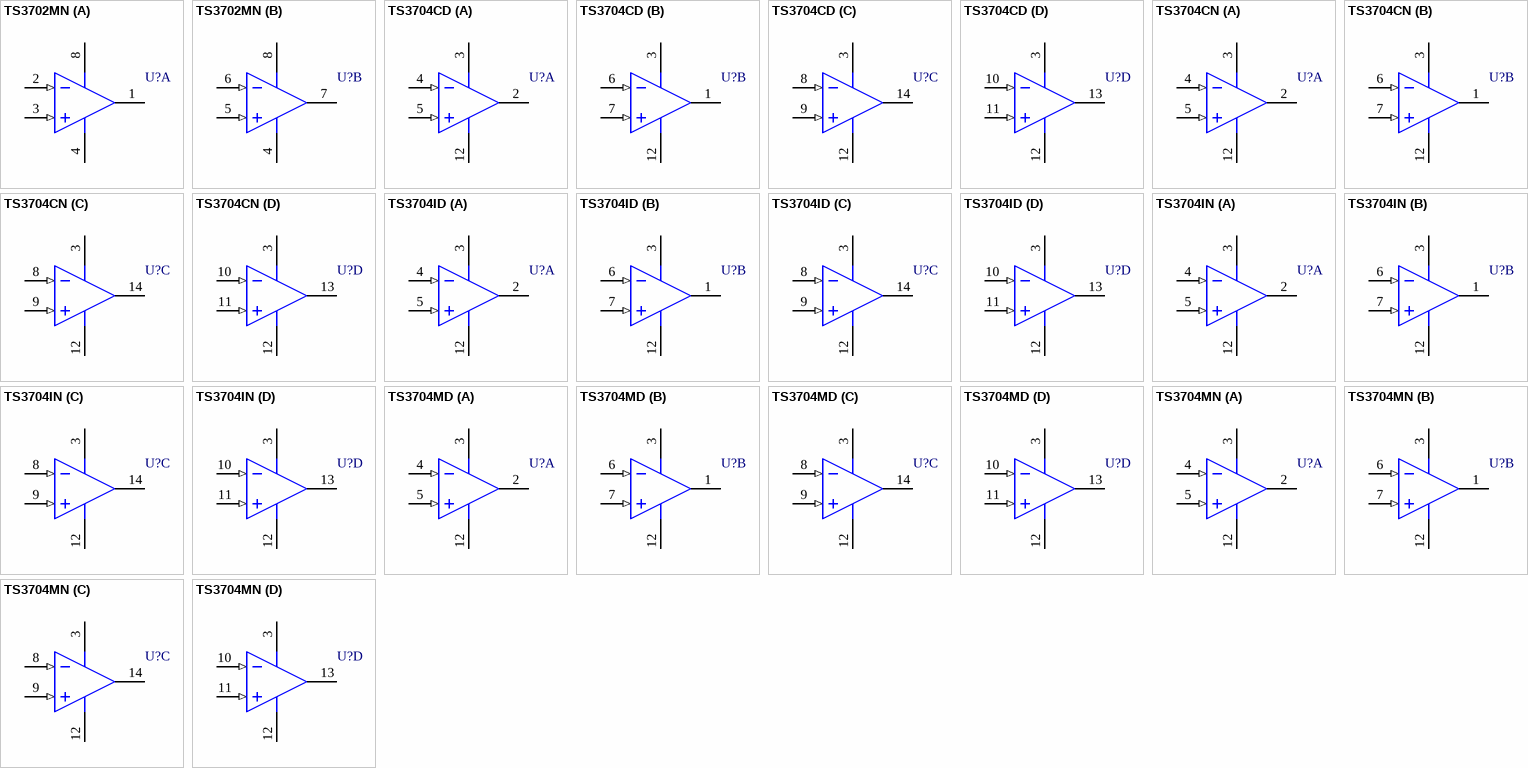
[diagram p5: symbols TS3702MN to TS3704MN]

## TS3702MN
designator U?
Micropower Dual CMOS Voltage Comparator; Published: 24-Aug-2001; LatestRevisionDate: 17-Jul-2002; LatestRevisionNote: Re-released for DXP Platform.; DatasheetDocument: Oct-1997; PackageReference: DIP8; Publisher: Altium Limited; Code_JEDEC: MO-001-AN
footprint DIP8 (DIP; 8 Leads; Row Spacing 7.62 mm; Pitch 2.54 mm)
pins on every part: 4 V- (power), 8 V+ (power)
part A pins: 1 OUT (oc), 2 IN- (in), 3 IN+ (in)
part B pins: 5 IN+ (in), 6 IN- (in), 7 OUT (oc)

## TS3704CD
designator U?
Micropower Quad CMOS Voltage Comparator; Published: 24-Aug-2001; LatestRevisionDate: 17-Jul-2002; LatestRevisionNote: Re-released for DXP Platform.; DatasheetDocument: Jan-1999; PackageDocument: Sep-1998; PackageReference: SO14; Publisher: Altium Limited
footprint SO14 (Small Outline; 14 Leads; Body Width 3.9 mm; Pitch 1.27 mm)
pins on every part: 3 V+ (power), 12 V- (power)
part A pins: 2 OUT (oc), 4 IN- (in), 5 IN+ (in)
part B pins: 1 OUT (oc), 6 IN- (in), 7 IN+ (in)
part C pins: 8 IN- (in), 9 IN+ (in), 14 OUT (oc)
part D pins: 10 IN- (in), 11 IN+ (in), 13 OUT (oc)

## TS3704CN
designator U?
Micropower Quad CMOS Voltage Comparator; Published: 24-Aug-2001; LatestRevisionDate: 17-Jul-2002; LatestRevisionNote: Re-released for DXP Platform.; DatasheetDocument: Jan-1999; PackageDocument: Jan-1997; PackageReference: DIP14; Publisher: Altium Limited
footprint DIP14 (DIP; 14 Leads; Row Spacing 7.62 mm; Pitch 2.54 mm)
pins on every part: 3 V+ (power), 12 V- (power)
part A pins: 2 OUT (oc), 4 IN- (in), 5 IN+ (in)
part B pins: 1 OUT (oc), 6 IN- (in), 7 IN+ (in)
part C pins: 8 IN- (in), 9 IN+ (in), 14 OUT (oc)
part D pins: 10 IN- (in), 11 IN+ (in), 13 OUT (oc)

## TS3704ID
designator U?
Micropower Quad CMOS Voltage Comparator; Published: 24-Aug-2001; LatestRevisionDate: 17-Jul-2002; LatestRevisionNote: Re-released for DXP Platform.; DatasheetDocument: Jan-1999; PackageDocument: Sep-1998; PackageReference: SO14; Publisher: Altium Limited
footprint SO14 (Small Outline; 14 Leads; Body Width 3.9 mm; Pitch 1.27 mm)
pins on every part: 3 V+ (power), 12 V- (power)
part A pins: 2 OUT (oc), 4 IN- (in), 5 IN+ (in)
part B pins: 1 OUT (oc), 6 IN- (in), 7 IN+ (in)
part C pins: 8 IN- (in), 9 IN+ (in), 14 OUT (oc)
part D pins: 10 IN- (in), 11 IN+ (in), 13 OUT (oc)

## TS3704IN
designator U?
Micropower Quad CMOS Voltage Comparator; Published: 24-Aug-2001; LatestRevisionDate: 17-Jul-2002; LatestRevisionNote: Re-released for DXP Platform.; DatasheetDocument: Jan-1999; PackageDocument: Jan-1997; PackageReference: DIP14; Publisher: Altium Limited
footprint DIP14 (DIP; 14 Leads; Row Spacing 7.62 mm; Pitch 2.54 mm)
pins on every part: 3 V+ (power), 12 V- (power)
part A pins: 2 OUT (oc), 4 IN- (in), 5 IN+ (in)
part B pins: 1 OUT (oc), 6 IN- (in), 7 IN+ (in)
part C pins: 8 IN- (in), 9 IN+ (in), 14 OUT (oc)
part D pins: 10 IN- (in), 11 IN+ (in), 13 OUT (oc)

## TS3704MD
designator U?
Micropower Quad CMOS Voltage Comparator; Published: 24-Aug-2001; LatestRevisionDate: 17-Jul-2002; LatestRevisionNote: Re-released for DXP Platform.; DatasheetDocument: Jan-1999; PackageDocument: Sep-1998; PackageReference: SO14; Publisher: Altium Limited
footprint SO14 (Small Outline; 14 Leads; Body Width 3.9 mm; Pitch 1.27 mm)
pins on every part: 3 V+ (power), 12 V- (power)
part A pins: 2 OUT (oc), 4 IN- (in), 5 IN+ (in)
part B pins: 1 OUT (oc), 6 IN- (in), 7 IN+ (in)
part C pins: 8 IN- (in), 9 IN+ (in), 14 OUT (oc)
part D pins: 10 IN- (in), 11 IN+ (in), 13 OUT (oc)

## TS3704MN
designator U?
Micropower Quad CMOS Voltage Comparator; Published: 24-Aug-2001; LatestRevisionDate: 17-Jul-2002; LatestRevisionNote: Re-released for DXP Platform.; DatasheetDocument: Jan-1999; PackageDocument: Jan-1997; PackageReference: DIP14; Publisher: Altium Limited
footprint DIP14 (DIP; 14 Leads; Row Spacing 7.62 mm; Pitch 2.54 mm)
pins on every part: 3 V+ (power), 12 V- (power)
part A pins: 2 OUT (oc), 4 IN- (in), 5 IN+ (in)
part B pins: 1 OUT (oc), 6 IN- (in), 7 IN+ (in)
part C pins: 8 IN- (in), 9 IN+ (in), 14 OUT (oc)
part D pins: 10 IN- (in), 11 IN+ (in), 13 OUT (oc)